# EAGLE library part ILD2-X007 (library SamacSys_Parts)
Transistor Output Optocouplers Phototransistor Out Dual CTR > 100% Source: Datasheet <https://www.vishay.com/docs/83646/ild1.pdf>
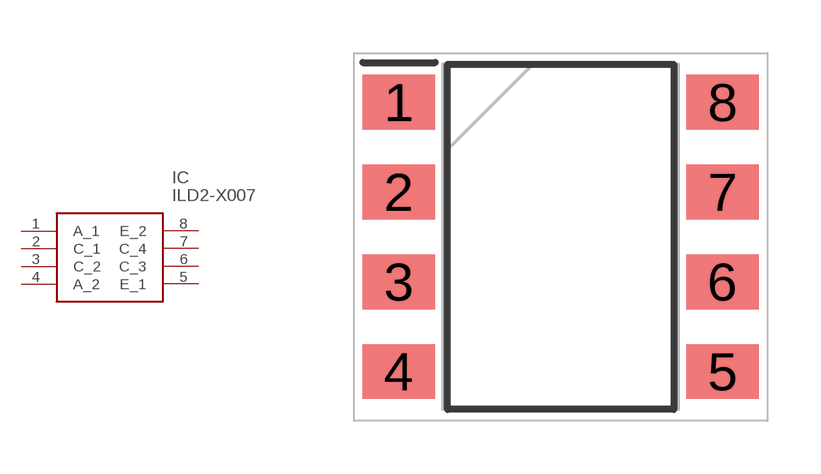
[diagram p190: symbol with the pads of SOP254P1030X460-8N; footprint SOP254P1030X460-8N]

Designator prefix IC

## ILD2-X007 (DESCRIPTION: Transistor Output Optocouplers Phototransistor Out Dual CTR > 100%; HEIGHT: 4.6mm; MANUFACTURER_NAME: Vishay; MANUFACTURER_PART_NUMBER: ILD2-X007; MOUSER_PART_NUMBER: 782-ILD2-X007; MOUSER_PRICE-STOCK: https://www.mouser.co.uk/ProductDetail/Vishay-Semiconductors/ILD2-X007?qs=%2Fjqivxn91cdlTMZg65rjfw%3D%3D)  [SOP254P1030X460-8N]
1  A_1
2  C_1
3  C_2
4  A_2
5  E_1
6  C_3
7  C_4
8  E_2

## Footprint SOP254P1030X460-8N (pad centres in mm)
SMD-6,OPTION-7
smd 2.05 x 1.55: 1 -4.575,3.81; 2 -4.575,1.27; 3 -4.575,-1.27; 4 -4.575,-3.81; 5 4.575,-3.81; 6 4.575,-1.27; 7 4.575,1.27; 8 4.575,3.81